# Altium footprint library SON50P200X200X80-9N-D.PcbLib: 1 footprints
Each footprint in its own frame and in the unit in brackets; x right, y up, seen from the top. Pads: shape width x height; smd on the part's side, far side on the other; paste and mask are expansions set on the pad; w line width, h text height; cw(c..) or ccw(c..) is an arc to the next point about the centre after c.
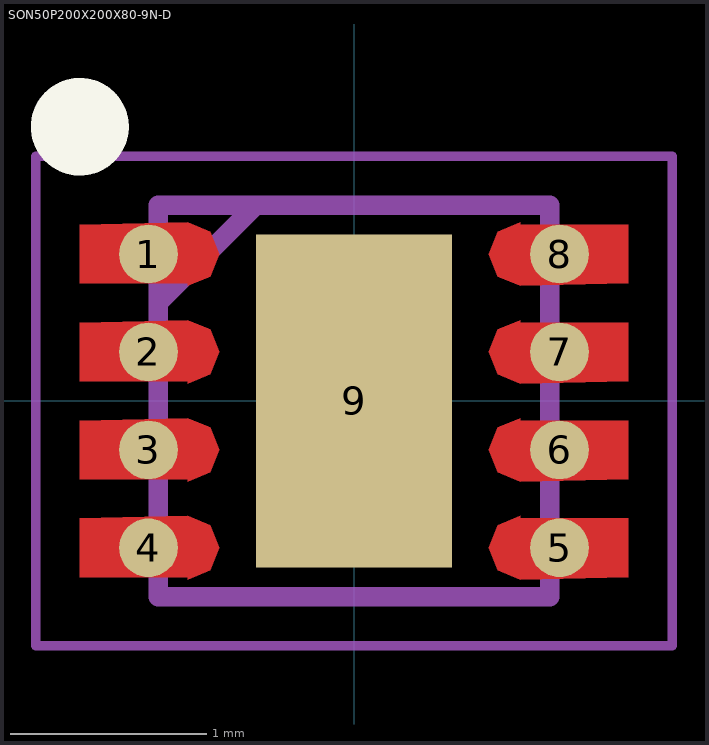
[diagram p0: the footprint, top view; thin cyan lines are the x and y axes]

## SON50P200X200X80-9N-D [mm]
pads (9):
  round 0.3 smd: 1(-1.05,0.75) 2(-1.05,0.25) 3(-1.05,-0.25) 4(-1.05,-0.75) 5(1.05,-0.75) 6(1.05,-0.25) 7(1.05,0.25) 8(1.05,0.75)
  rect 1x1.7 smd: 9(0,0)
L0 (Multiple PADS layers...):
  region: -1.4,0.9 -0.85,0.912 -0.735,0.865 -0.688,0.75 -0.735,0.635 -0.85,0.588 -0.85,0.6 -1.4,0.6
  region: -1.4,0.4 -0.85,0.412 -0.735,0.365 -0.688,0.25 -0.735,0.135 -0.85,0.088 -0.85,0.1 -1.4,0.1
  region: -1.4,-0.1 -0.85,-0.088 -0.735,-0.135 -0.688,-0.25 -0.735,-0.365 -0.85,-0.412 -0.85,-0.4 -1.4,-0.4
  region: -1.4,-0.6 -0.85,-0.588 -0.735,-0.635 -0.688,-0.75 -0.735,-0.865 -0.85,-0.912 -0.85,-0.9 -1.4,-0.9
  region: 1.4,-0.9 0.85,-0.912 0.735,-0.865 0.688,-0.75 0.735,-0.635 0.85,-0.588 0.85,-0.6 1.4,-0.6
  region: 1.4,-0.4 0.85,-0.412 0.735,-0.365 0.688,-0.25 0.735,-0.135 0.85,-0.088 0.85,-0.1 1.4,-0.1
  region: 1.4,0.1 0.85,0.088 0.735,0.135 0.688,0.25 0.735,0.365 0.85,0.412 0.85,0.4 1.4,0.4
  region: 1.4,0.6 0.85,0.588 0.735,0.635 0.688,0.75 0.735,0.865 0.85,0.912 0.85,0.9 1.4,0.9
L26-Silk Screen Top (Multiple PADS layers...):
  circle w0.25: c-1.4,1.4 r0.125
L15 (Multiple PADS layers...):
  lines w0.1: -1,0.5 -0.5,1 ; -1,-1 1,-1 1,1 -1,1 -1,-1
L20:
  lines w0.05: -1.625,-1.25 1.625,-1.25 1.625,1.25 -1.625,1.25 -1.625,-1.25